# EAGLE library part M41T81 (library dawidkulpa_dev)
Real-time clock with alarm I2C 400kHz Counters for tenths/hundredths of seconds, seconds, minutes, hours, day, date, month, year, and century
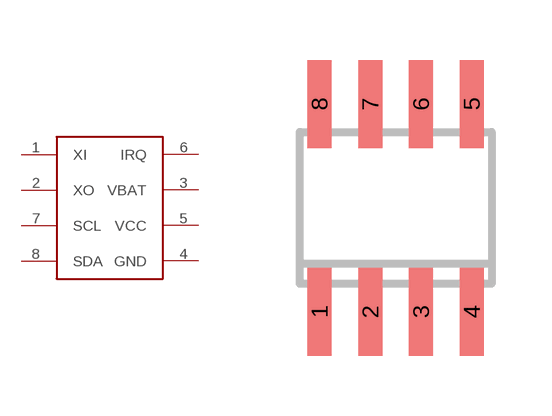
[diagram p10: symbol with the pads of SOIC8; footprint SOIC8]

Designator prefix -

## M41T81  [SOIC8]
1  XI
2  XO
3  VBAT
4  GND
5  VCC
6  IRQ
7  SCL
8  SDA

## Footprint SOIC8 (pad centres in mm)
Small Outline IC
smd 0.6 x 2.2: 1 -1.905,-2.6; 2 -0.635,-2.6; 3 0.635,-2.6; 4 1.905,-2.6; 5 1.905,2.6; 6 0.635,2.6; 7 -0.635,2.6; 8 -1.905,2.6